# Altium footprint library FRP3-102_LAN Switch & Power Distribution Module.PcbLib: 29 footprints (part 1 of 2)
Each footprint in its own frame and in the unit in brackets; x right, y up, seen from the top. Pads: shape width x height; smd on the part's side, far side on the other; paste and mask are expansions set on the pad; w line width, h text height; cw(c..) or ccw(c..) is an arc to the next point about the centre after c.
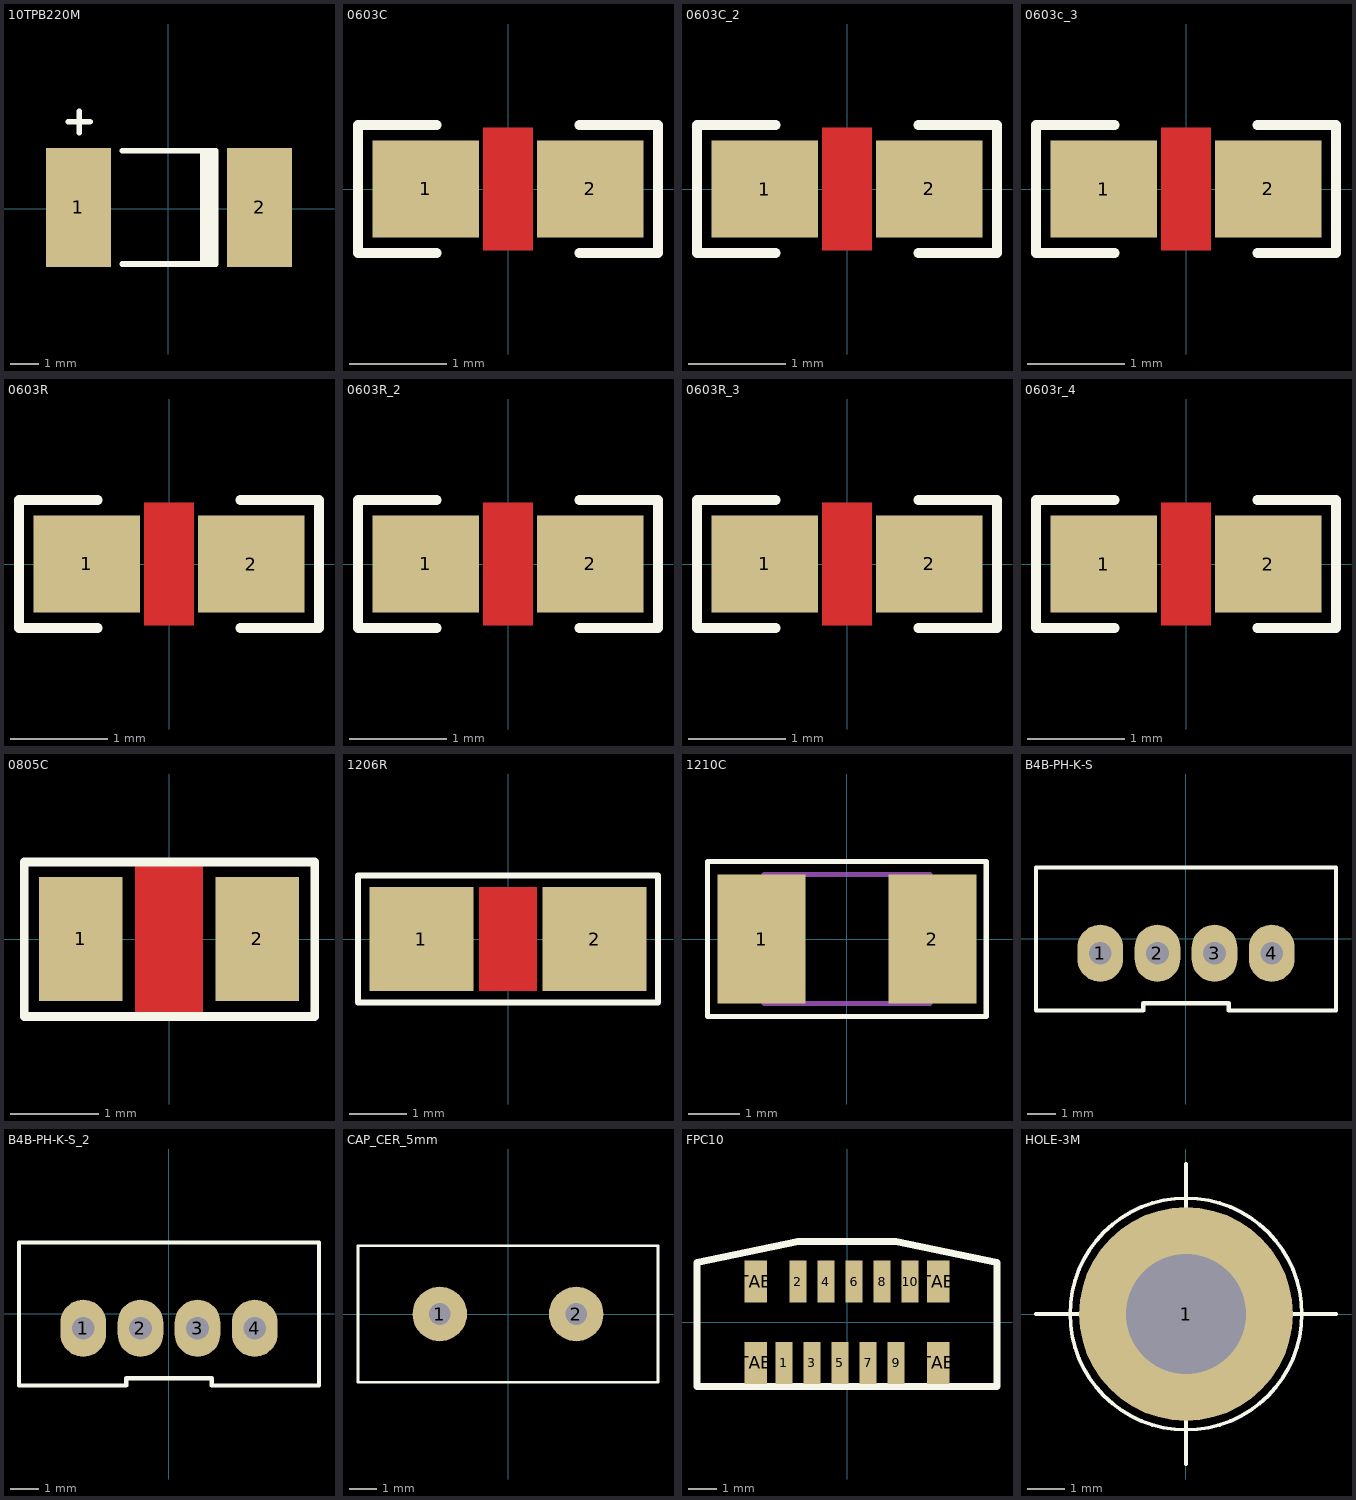
[diagram p0: the footprints below, top view; thin cyan lines are the x and y axes]

## 10TPB220M [mm]
pads (2):
  rect 2.3x4.2 smd: 1(-3.175,0.051) 2(3.225,0.051)
Top Overlay:
  region: 1.676,2.051 1.126,2.051 1.126,-1.949 1.676,-1.949
  lines w0.2: -3.529,3.073 -2.767,3.073 ; -3.148,2.692 -3.148,3.454 ; -1.625,-1.949 1.675,-1.949 1.675,2.051 -1.625,2.051
3D body "CaseX_7343-43.STEP": height 4, standoff 0, extent -3.65,-2.1 3.65,2.2

## 0603C [mm]
pads (2):
  rect 1.1x1 smd: 1(-0.85,0) 2(0.85,0)
Top Layer:
  pour cut-out: -0.254,0.635 0.254,0.635 0.254,-0.635 -0.254,-0.635
Top Overlay:
  lines w0.1: -0.737,-0.66 -1.549,-0.66 -1.549,0 -1.549,0.66 -0.737,0.66 ; 0.737,-0.66 1.549,-0.66 1.549,0 1.549,0.66 0.737,0.66
3D body "User Library-0603(1608M) Cap (1).step": height 0.79, standoff 0, extent -1,-0.394 1,0.394

## 0603C_2 [mm]
pads (2):
  rect 1.1x1 smd: 1(-0.85,0) 2(0.85,0)
Top Layer:
  pour cut-out: -0.254,0.635 0.254,0.635 0.254,-0.635 -0.254,-0.635
Top Overlay:
  lines w0.1: -0.737,-0.66 -1.549,-0.66 -1.549,0 -1.549,0.66 -0.737,0.66 ; 0.737,-0.66 1.549,-0.66 1.549,0 1.549,0.66 0.737,0.66
3D body "User Library-0603(1608M) Cap (1).step": height 0.79, standoff 0, extent -1,-0.394 1,0.394

## 0603c_3 [mm]
pads (2):
  rect 1.1x1 smd: 1(-0.85,0) 2(0.85,0)
Top Layer:
  pour cut-out: -0.254,0.635 0.254,0.635 0.254,-0.635 -0.254,-0.635
Top Overlay:
  lines w0.1: -0.737,-0.66 -1.549,-0.66 -1.549,0 -1.549,0.66 -0.737,0.66 ; 0.737,-0.66 1.549,-0.66 1.549,0 1.549,0.66 0.737,0.66
3D body "User Library-0603(1608M) Cap (1).step": height 0.79, standoff 0, extent -1,-0.394 1,0.394

## 0603R [mm]
pads (2):
  rect 1.1x1 smd: 1(-0.85,0) 2(0.85,0)
Top Layer:
  pour cut-out: -0.254,-0.635 0.254,-0.635 0.254,0.635 -0.254,0.635
Top Overlay:
  lines w0.1: -0.737,-0.66 -1.549,-0.66 -1.549,0 -1.549,0.66 -0.737,0.66 ; 0.737,-0.66 1.549,-0.66 1.549,0 1.549,0.66 0.737,0.66
3D body "User Library-TNPW0603.STEP": height 0.45, standoff 0, extent -0.8,-0.425 0.8,0.425

## 0603R_2 [mm]
pads (2):
  rect 1.1x1 smd: 1(-0.85,0) 2(0.85,0)
Top Layer:
  pour cut-out: -0.254,-0.635 0.254,-0.635 0.254,0.635 -0.254,0.635
Top Overlay:
  lines w0.1: -0.737,-0.66 -1.549,-0.66 -1.549,0 -1.549,0.66 -0.737,0.66 ; 0.737,-0.66 1.549,-0.66 1.549,0 1.549,0.66 0.737,0.66
3D body "User Library-TNPW0603.STEP": height 0.45, standoff 0, extent -0.8,-0.425 0.8,0.425

## 0603R_3 [mm]
pads (2):
  rect 1.1x1 smd: 1(-0.85,0) 2(0.85,0)
Top Layer:
  pour cut-out: -0.254,-0.635 0.254,-0.635 0.254,0.635 -0.254,0.635
Top Overlay:
  lines w0.1: -0.737,-0.66 -1.549,-0.66 -1.549,0 -1.549,0.66 -0.737,0.66 ; 0.737,-0.66 1.549,-0.66 1.549,0 1.549,0.66 0.737,0.66
3D body "User Library-TNPW0603.STEP": height 0.45, standoff 0, extent -0.8,-0.425 0.8,0.425

## 0603r_4 [mm]
pads (2):
  rect 1.1x1 smd: 1(-0.85,0) 2(0.85,0)
Top Layer:
  pour cut-out: -0.254,-0.635 0.254,-0.635 0.254,0.635 -0.254,0.635
Top Overlay:
  lines w0.1: -0.737,-0.66 -1.549,-0.66 -1.549,0 -1.549,0.66 -0.737,0.66 ; 0.737,-0.66 1.549,-0.66 1.549,0 1.549,0.66 0.737,0.66
3D body "User Library-TNPW0603.STEP": height 0.45, standoff 0, extent -0.8,-0.425 0.8,0.425

## 0805C [mm]
pads (2):
  rect 0.95x1.4 smd: 1(-1,0) 2(1,0)
Top Layer:
  pour cut-out: 0.381,0.889 0.381,-0.889 -0.381,-0.889 -0.381,0.889
Top Overlay:
  lines w0.1: -1.64,-0.88 1.651,-0.88 1.651,0.872 -1.64,0.872 -1.64,-0.88
3D body "SW3dPS-0805 SMD Capacitor.STEP": height 0.78, standoff 0, extent -1,-0.625 1,0.625

## 1206R [mm]
pads (2):
  rect 1.8x1.8 smd: 1(-1.5,0) 2(1.5,0)
Top Layer:
  pour cut-out: -0.5,-0.9 -0.5,0.9 0.5,0.9 0.5,-0.9
Top Overlay:
  lines w0.1: -2.6,-1.1 2.6,-1.1 2.6,1.1 -2.6,1.1 -2.6,-1.1
3D body "User Library-RESC3216X___.x_t": height 1, standoff 0.8, extent -1.55,-0.8 1.55,0.8

## 1210C [mm]
pads (2):
  rect 1.7x2.5 smd: 1(-1.65,0) 2(1.65,0)
Top Overlay:
  lines w0.1: -2.7,-1.499 -2.7,1.499 2.692,1.499 2.692,-1.499 -2.7,-1.499
Mechanical 13:
  lines w0.1: -1.6,-1.25 1.6,-1.25 1.6,1.25 -1.6,1.25 -1.6,-1.25
3D body "User Library-CAPC3225X___.x_t": height 0.52, standoff 0, extent -1.6,-1.26 1.6,1.26

## B4B-PH-K-S [mm]
pads (4):
  oval 1.6x2 hole 0.8: 1(-3,-0.5) 2(-1,-0.5) 3(1,-0.5) 4(3,-0.5)
Top Overlay:
  lines w0.15: -5.25,-2.5 -1.5,-2.5 -1.5,-2.25 1.5,-2.25 1.5,-2.5 5.25,-2.5 5.25,2.5 -5.25,2.5 -5.25,-2.5
3D body "User Library-b4b-ph-k-s.x_t": height 6, standoff -3, extent -4.95,-2.25 4.95,2.25

## B4B-PH-K-S_2 [mm]
pads (4):
  oval 1.6x2 hole 0.8: 1(-3,-0.5) 2(-1,-0.5) 3(1,-0.5) 4(3,-0.5)
Top Overlay:
  lines w0.15: -5.25,-2.5 -5.25,2.5 5.25,2.5 5.25,-2.5 1.5,-2.5 1.5,-2.25 -1.5,-2.25 -1.5,-2.5 -5.25,-2.5
3D body "User Library-b4b-ph-k-s.x_t": height 6, standoff -3, extent -4.95,-2.25 4.95,2.25

## CAP_CER_5mm [mm]
pads (2):
  round 2 hole 0.8: 1(-2.5,0) 2(2.5,0)
Top Overlay:
  lines w0.1: -5.5,-2.5 -5.5,2.5 5.5,2.5 5.5,-2.5 -5.5,-2.5
3D body "User Library-TDK_CAP_CK45_.STEP": height 12.5, standoff -5, extent -5.498,-2.5 5.499,2.5

## FPC10 [mm]
pads (14):
  rect 0.6x1.5 smd: 1(-2.25,-1.45) 2(-1.75,1.45) 3(-1.25,-1.45) 4(-0.75,1.45) 5(-0.25,-1.45) 6(0.25,1.45) 7(0.75,-1.45) 8(1.25,1.45) 9(1.75,-1.45) 10(2.25,1.45)
  rect 0.8x1.5 smd: TAB(-3.25,1.45) TAB(-3.25,-1.45) TAB(3.25,1.45) TAB(3.25,-1.45)
Top Overlay:
  lines w0.254: -1.761,2.872 1.749,2.882 5.349,2.122 5.35,-2.3 -5.35,-2.3 -5.351,2.122 -1.751,2.872
3D body "FPC - 0.5mm Pitch - 10 Pin.stp": height 3.95, standoff 0, extent -5.35,-1.904 5.35,1.596

## HOLE-3M [mm]
pads (1):
  round 5.7 hole 3.2: 1(0,0)
Top Overlay:
  circle w0.1: c0,0 r3.09
  lines w0.1: -4,0 4,0 ; 0,-4 0,4
3D body "TR Fastenings Ltd-N4x0_188N4x0_188.STEP": height 2.15, standoff -4.78, extent -2.794,-2.794 2.794,2.794